# Altium integrated library Infineon_Power_Smart_Low-Side_&_High-Side_Switches.IntLib: 238 symbols (part 6 of 14)
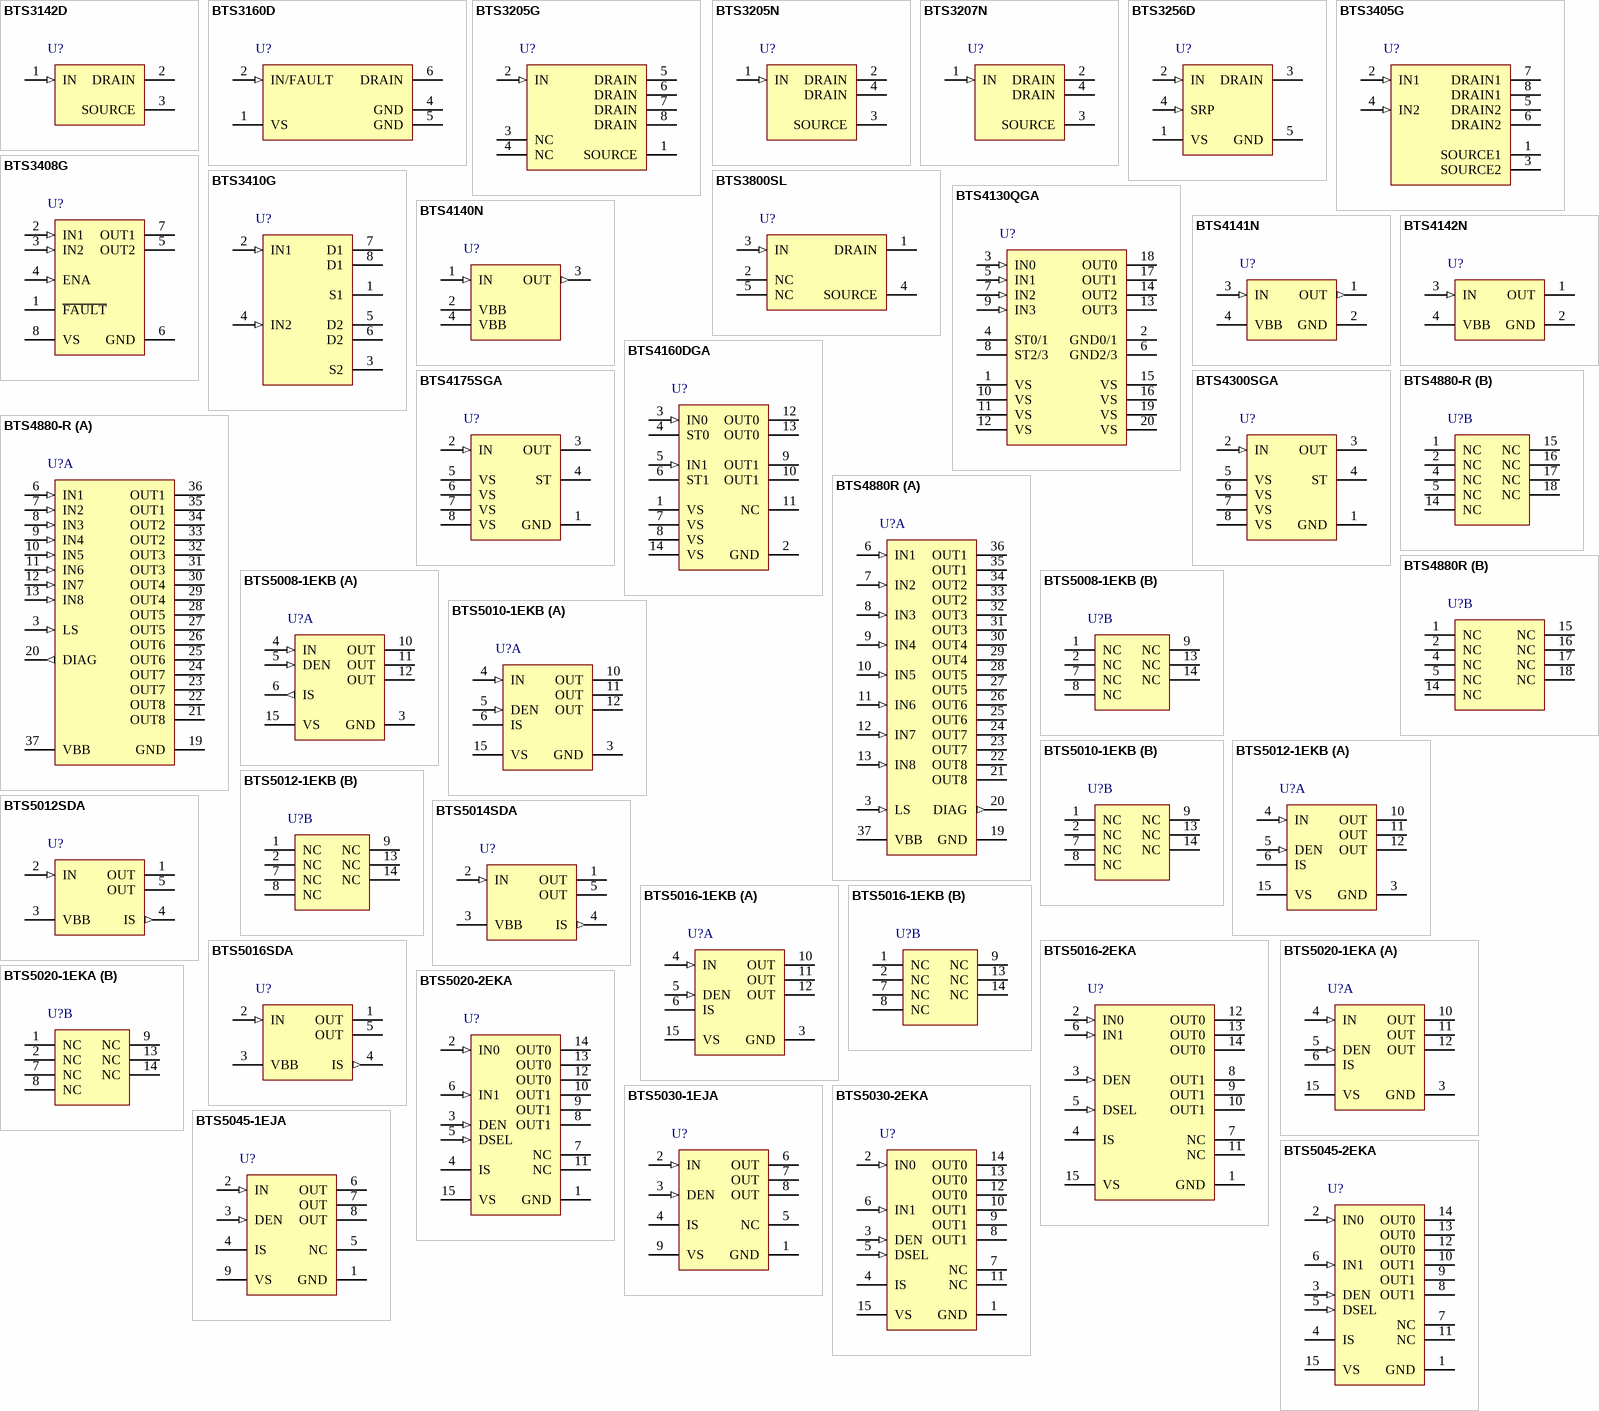
[diagram p12: symbols BTS3142D to BTS5045-2EKA]

## BTS5016-2EKA
designator U?
Smart High-Side Power Switch, 5 V to 28 V, -40 to 150 degC, PG-DSO-14, Reel, Green; Manufacturer: Infineon; PartNumber: BTS5016-2EKA; Channels: 2; Diagnostic: Sense; Green: TRUE; Load Current (typ): 8 A; Ptot (max): 2 W; Recommended Operating Voltage Max.: 28 V; Recommended Operating Voltage Min.: 5 V; RON (max) @ Tj: 150degreesC=32 mOhm; RON @ Tj: 25degreesC=16 mOhm; toff (max): 200 us; DatasheetVersion: Rev. 1.0; PackageVersion: Sep-11; PackageReference: PG-DSO-14-40; PackageDescription: 14-Pin Plastic (Green) Dual Small Outline Package, 8.65 x 3.9 mm Body, 1.27 mm Pitch; Supplier 1: Mouser; Supplier Part Number 1: N/A; Halogen-free: TRUE; Mounting: SMT; Packing: Reel; ton (max): 200 us; Mounting Technology: Surface Mount; Code_JEDEC: MS-012; ComponentLink1Description: Manufacturer URL; ComponentLink1URL: http://www.infineon.com/; ComponentLink2Description: Datasheet; ComponentLink2URL: http://www.infineon.com/dgdl/INFINEON-BTS5016-2EKA-Data-Sheet.pdf?folderId=db3a3043163797a6011667aa084c0e01&fileId=db3a30434208e5fd014209445345018e; ComponentLink3Description: Package Specification; ComponentLink3URL: http://www.infineon.com/dgdl/BTS5030-2EKA_Data-Sheet_21.pdf?folderId=db3a30431400ef68011421b54e2e0564&fileId=db3a30432a14dd54012a3c882d7f5994&sId=db3a30433d68e984013d83e34cd77b82
footprint INF-PG-DSO-14-40_N (SOP, 14-Leads, Body 8.65x3.9mm, Pitch 1.27mm, Thermal Pad 6.5x2.75mm, IPC Medium Density)
footprint INF-PG-DSO-14-40_L (SOP, 14-Leads, Body 8.65x3.9mm, Pitch 1.27mm, Thermal Pad 6.5x2.75mm, IPC High Density)
footprint INF-PG-DSO-14-40_M (SOP, 14-Leads, Body 8.65x3.9mm, Pitch 1.27mm, Thermal Pad 6.5x2.6mm, IPC Low Density)
pins: 1 GND (power) "GrouND; Ground connection", 2 IN0 (in) "INput channel 0; Input signal for channel 0 activation", 3 DEN (in) "Diagnostic ENable; Digital signal to enable/disable the diagnosis of the device", 4 IS (hiz) "Sense; Sense current of the selected channel", 5 DSEL (in) "Diagnostic SELection; Digital signal to select the channel to be diagnosed", 6 IN1 (in) "INput channel 1; Input signal for channel 1 activation", 7 NC "Not Connected; No internal connection to the chip", 8 OUT1 (power) "OUTput 1; Protected high side power output channel 1", 9 OUT1 (power) "OUTput 1; Protected high side power output channel 1", 10 OUT1 (power) "OUTput 1; Protected high side power output channel 1", 11 NC "Not Connected; No internal connection to the chip", 12 OUT0 (power) "OUTput 0; Protected high side power output channel 0", 13 OUT0 (power) "OUTput 0; Protected high side power output channel 0", 14 OUT0 (power) "OUTput 0; Protected high side power output channel 0", 15 VS (power) "Voltage Supply; Battery voltage"

## BTS5016SDA
designator U?
Smart High-Side Power Switch PROFET, 1 Channel, 6.5 A Load Current, -40 to 150 degC, PG-TO252-5-11, Reel, Green; Manufacturer: Infineon; PartNumber: BTS5016SDA; Channels: 1; Green: TRUE; Group: Automotive Qualified; Load Current (typ): 6.5 A; Recommended Operating Voltage Max.: 20 V; Recommended Operating Voltage Min.: 5.5 V; RON @ 25degreesC: 16 mOhm; RON(max) @ 150degreesC: 32 mOhm; toff (max): 500 us; DatasheetVersion: Rev. 1.1; PackageVersion: Nov-10; PackageReference: PG-TO252-5-11; PackageDescription: 5-Pin Plastic (Green) Transistor Single Outline Package, 6.5 x 6.12 mm Body, 1.14 mm Pitch; Supplier 1: Mouser; Supplier Part Number 1: 726-BTS5016SDA; Supplier 2: Newark; Supplier Part Number 2: 47W3403; Supplier 3: Farnell; Supplier Part Number 3: 2215483; Supplier 4: Digi-Key; Supplier Part Number 4: BTS5016SDAINDTR-ND; Supplier 5: Digi-Key; Supplier Part Number 5: BTS5016SDAINDCT-ND; Supplier 6: Digi-Key; Supplier Part Number 6: BTS5016SDAINDDKR-ND; Halogen-free: TRUE; Packing: Reel; ton (max): 500 us; Mounting Technology: Surface Mount; ComponentLink1Description: Manufacturer URL; ComponentLink1URL: http://www.infineon.com/; ComponentLink2Description: Datasheet; ComponentLink2URL: http://www.infineon.com/dgdl/BTS5016SDA_DS_v11.pdf?folderId=db3a304314dca389011537739e37155f&fileId=db3a30431d8a6b3c011db95e60562387&location=en.Products.Automotive_ICs.Smart_High-_and_Low-Side_Switches.PROFET__-_Smart_High_Side_Switches.DATASHEET.BTS5016SDA_DS_v11.pdf; ComponentLink3Description: Package Specification; ComponentLink3URL: http://www.infineon.com/dgdl/TLE7276-Data+Sheet-+v1_11.pdf?folderId=db3a304412b407950112b408e8c90004&fileId=db3a304412b407950112b436c53f66c8&sId=db3a30433db6f09f013dc0e43c0428c1
footprint INF-PG-TO252-5-11_N (DPAK, 5-Leads, Body 6.5x6.12mm, Pitch 1.14mm, IPC Medium Density)
footprint INF-PG-TO252-5-11_L (DPAK, 5-Leads, Body 6.5x6.12mm, Pitch 1.14mm, IPC High Density)
footprint INF-PG-TO252-5-11_M (DPAK, 5-Leads, Body 6.5x6.12mm, Pitch 1.14mm, IPC Low Density)
pins: 1 OUT (power) "Output; output to the load; pin 1 and 5 must be externally shorted.", 2 IN (in) "Input; activates the power switch if shorted to ground.", 3 VBB (power) "Supply Voltage; positive power supply voltage; tab and pin 3 are internally shorted.", 4 IS (out) "Sense Output; Diagnostic feedback; provides at normal operation a sense current proportional to the load current; in case of overload, overtemperature and/or short circuit a defined current is provided.", 5 OUT (power) "Output; output to the load; pin 1 and 5 must be externally shorted."

## BTS5020-1EKA
designator U?
PROFET+ 12 V Smart High-Side Power Switch, 1 Channel, 20 mOhm, 6.5 A Load Current, -40 to 150 degC, PG-DSO-14-47, Reel, Green; Manufacturer: Infineon; PartNumber: BTS5020-1EKA; Channels: 1; Green: TRUE; Group: Automotive Qualified; Load Current (typ): 6.5 A; Ptot (max): 1.8 W; Recommended Operating Voltage Max.: 28 V; Recommended Operating Voltage Min.: 5 V; RON @ 25degreesC: 20 mOhm; RON(max) @ 150degreesC: 44 mOhm; toff (max): 230 us; DatasheetVersion: Rev. 2.0; PackageVersion: Apr-12; PackageReference: PG-DSO-14-47; PackageDescription: 14-Pin Plastic (Green) Dual Small Outline Package, 8.65 x 3.9 mm Body, 1.27 mm Pitch; Halogen-free: TRUE; Packing: Reel; ton (max): 230 us; Mounting Technology: Surface Mount; Code_JEDEC: MS-012; ComponentLink1Description: Manufacturer URL; ComponentLink1URL: http://www.infineon.com/; ComponentLink2Description: Datasheet; ComponentLink2URL: http://www.infineon.com/dgdl/BTS5020_1EKA_DS20.pdf?folderId=db3a30431400ef68011421b54e2e0564&fileId=db3a304334c41e910134cbe312c960cb&location=en.Products.Automotive_ICs.Smart_High-_and_Low-Side_Switches.PROFET__-_Smart_High_Side_Switches.DATASHEET.BTS5020_1EKA_DS20.pdf; ComponentLink3Description: Package Specification; ComponentLink3URL: http://www.infineon.com/dgdl/BTS5016-1EKB-Datasheet-20-Infineon.pdf?folderId=db3a304317a748360117eee5521349bb&fileId=db3a3043372d5cc8013735a2497012f0&sId=db3a30433d68e984013d8558efbc0db3
footprint INF-PG-DSO-14-47_N (SOP, 14-Leads, Body 8.65x3.9mm, Pitch 1.27mm, Thermal Pad 6500x2750mm, IPC Medium Density)
footprint INF-PG-DSO-14-47_L (SOP, 14-Leads, Body 8.65x3.9mm, Pitch 1.27mm, Thermal Pad 6500x2750mm, IPC High Density)
footprint INF-PG-DSO-14-47_M (SOP, 14-Leads, Body 8.65x3.9mm, Pitch 1.27mm, Thermal Pad 6500x2750mm, IPC Low Density)
part A pins: 3 GND (power) "GrouND; Ground connection", 4 IN (in) "INput channel; Input signal for channel activation", 5 DEN (in) "Diagnostic ENable; Digital signal to enable/disable the diagnosis of the device", 6 IS (hiz) "Sense; Sense current of the selected channel", 10 OUT (power) "OUTput; Protected high side power output channel", 11 OUT (power) "OUTput; Protected high side power output channel", 12 OUT (power) "OUTput; Protected high side power output channel", 15 VS (power) "Voltage Supply; Battery voltage"
part B pins: 1 NC "Not Connected; No internal connection to the chip", 2 NC "Not Connected; No internal connection to the chip", 7 NC "Not Connected; No internal connection to the chip", 8 NC "Not Connected; No internal connection to the chip", 9 NC "Not Connected; No internal connection to the chip", 13 NC "Not Connected; No internal connection to the chip", 14 NC "Not Connected; No internal connection to the chip"

## BTS5020-2EKA
designator U?
PROFET+ 12 V Smart High-Side Power Switch, 1 Channel, 20 mOhm, 50 A Load Current, -40 to 150 degC, PG-DSO-14-47, Tube, Green; Manufacturer: Infineon; PartNumber: BTS5020-2EKA; Channels: 2; Green: TRUE; Group: Automotive Qualified; Load Current (typ): 50 A; Ptot (max): 2.2 W; Recommended Operating Voltage Max.: 28 V; Recommended Operating Voltage Min.: 5 V; RON @ 25degreesC: 20 mOhm; RON(max) @ 150degreesC: 44 mOhm; toff (max): 230 us; DatasheetVersion: Rev. 2.1; PackageVersion: Apr-12; PackageReference: PG-DSO-14-47; PackageDescription: 14-Pin Plastic (Green) Dual Small Outline Package, 8.65 x 3.9 mm Body, 1.27 mm Pitch; Supplier 1: Mouser; Supplier Part Number 1: 726-BTS5020-2EKA; Supplier 2: Digi-Key; Supplier Part Number 2: BTS5020-2EKATR-ND; Supplier 3: Digi-Key; Supplier Part Number 3: BTS5020-2EKACT-ND; Supplier 4: Digi-Key; Supplier Part Number 4: BTS5020-2EKADKR-ND; Halogen-free: TRUE; Packing: Tube; ton (max): 230 us; Mounting Technology: Surface Mount; Code_JEDEC: MS-012; ComponentLink1Description: Manufacturer URL; ComponentLink1URL: http://www.infineon.com/; ComponentLink2Description: Datasheet; ComponentLink2URL: http://www.infineon.com/dgdl/BTS5020-2EKA_DS21.pdf?folderId=db3a30431400ef68011421b54e2e0564&fileId=db3a30432a14dd54012a3c86e0ef598f&location=en.Products.Automotive_ICs.Smart_High-_and_Low-Side_Switches.PROFET__-_Smart_High_Side_Switches.DATASHEET.BTS5020-2EKA_DS21.pdf; ComponentLink3Description: Package Specification; ComponentLink3URL: http://www.infineon.com/dgdl/BTS5016-1EKB-Datasheet-20-Infineon.pdf?folderId=db3a304317a748360117eee5521349bb&fileId=db3a3043372d5cc8013735a2497012f0&sId=db3a30433d68e984013d8558efbc0db3
footprint INF-PG-DSO-14-47_N (SOP, 14-Leads, Body 8.65x3.9mm, Pitch 1.27mm, Thermal Pad 6500x2750mm, IPC Medium Density)
footprint INF-PG-DSO-14-47_L (SOP, 14-Leads, Body 8.65x3.9mm, Pitch 1.27mm, Thermal Pad 6500x2750mm, IPC High Density)
footprint INF-PG-DSO-14-47_M (SOP, 14-Leads, Body 8.65x3.9mm, Pitch 1.27mm, Thermal Pad 6500x2750mm, IPC Low Density)
pins: 1 GND (power) "GrouND; Ground connection", 2 IN0 (in) "INput channel 0; Input signal for channel 0 activation", 3 DEN (in) "Diagnostic ENable; Digital signal to enable/disable the diagnosis of the device", 4 IS (hiz) "Sense; Sense current of the selected channel", 5 DSEL (in) "Diagnostic SELection; Digital signal to select the channel to be diagnosed", 6 IN1 (in) "INput channel 1; Input signal for channel 1 activation", 7 NC "Not Connected; No internal connection to the chip", 8 OUT1 (power) "OUTput 1; Protected high side power output channel 1", 9 OUT1 (power) "OUTput 1; Protected high side power output channel 1", 10 OUT1 (power) "OUTput 1; Protected high side power output channel 1", 11 NC "Not Connected; No internal connection to the chip", 12 OUT0 (power) "OUTput 0; Protected high side power output channel 0", 13 OUT0 (power) "OUTput 0; Protected high side power output channel 0", 14 OUT0 (power) "OUTput 0; Protected high side power output channel 0", 15 VS (power) "Voltage Supply; Battery voltage"

## BTS5030-1EJA
designator U?
PROFET+ 12 V Smart High-Side Power Switch, 1 Channel, 30 mOhm, 6 A Load Current, -40 to 150 degC, PG-DSO-8-27, Reel, Green; Manufacturer: Infineon; PartNumber: BTS5030-1EJA; Channels: 1; Green: TRUE; Group: Automotive Qualified; Load Current (typ): 6 A; Packing: Tube; Ptot (max): 1.7 W; Recommended Operating Voltage Max.: 28 V; Recommended Operating Voltage Min.: 5 V; RON @ 25degreesC: 30 mOhm; RON(max) @ 150degreesC: 60 mOhm; toff (max): 230 us; DatasheetVersion: Rev. 2.1; PackageVersion: Jun-12; PackageReference: PG-DSO-8-27; PackageDescription: 8-Pin Plastic (Green) Dual Small Outline Package, 4.9 x 3.9 mm Body, 1.27 mm Pitch; Supplier 1: Mouser; Supplier Part Number 1: 726-BTS5030-1EJA; Halogen-free: TRUE; ton (max): 230 us; Mounting Technology: Surface Mount; Code_JEDEC: MS-012; ComponentLink1Description: Manufacturer URL; ComponentLink1URL: http://www.infineon.com/; ComponentLink2Description: Datasheet; ComponentLink2URL: http://www.infineon.com/dgdl/BTS5030_1EJA_DS21.pdf?folderId=db3a30431400ef68011421b54e2e0564&fileId=db3a30433162923a0131656f757e4186&location=en.Products.Automotive_ICs.Smart_High-_and_Low-Side_Switches.PROFET__-_Smart_High_Side_Switches.DATASHEET.BTS5030_1EJA_DS21.pdf; ComponentLink3Description: Package Specification; ComponentLink3URL: http://www.infineon.com/dgdl/ILD4071_DS_V10_November2011.pdf?folderId=db3a30431f848401011fcbf2ab4c04c4&fileId=db3a30433784a04001380498fdf04c32
footprint INF-PG-DSO-8-27_N (SOP, 8-Leads, Body 4.9x3.9mm, Pitch 1.27mm, Thermal Pad 3.2x2.85mm, IPC Medium Density)
footprint INF-PG-DSO-8-27_L (SOP, 8-Leads, Body 4.9x3.9mm, Pitch 1.27mm, Thermal Pad 3.2x2.85mm, IPC High Density)
footprint INF-PG-DSO-8-27_M (SOP, 8-Leads, Body 4.9x3.9mm, Pitch 1.27mm, Thermal Pad 3.2x2.85mm, IPC Low Density)
pins: 1 GND (power) "GrouND; Ground connection", 2 IN (in) "INput channel; Input signal for channel activation", 3 DEN (in) "Diagnostic ENable; Digital signal to enable/disable the diagnosis of the device", 4 IS (hiz) "Sense; Sense current of the selected channel", 5 NC "Not Connected; No internal connection to the chip", 6 OUT (power) "OUTput; Protected high side power output channel", 7 OUT (power) "OUTput; Protected high side power output channel", 8 OUT (power) "OUTput; Protected high side power output channel", 9 VS (power) "Voltage Supply; Battery voltage"

## BTS5030-2EKA
designator U?
PROFET+ 12 V Smart High-Side Power Switch, 2 Channels, 30 mOhm, 4 A Load Current, -40 to 150 degC, PG-DSO-14-40, Tube, Green; Manufacturer: Infineon; PartNumber: BTS5030-2EKA; Channels: 2; Green: TRUE; Group: Automotive Qualified; Load Current (typ): 4 A; Ptot (max): 2.1 W; Recommended Operating Voltage Max.: 28 V; Recommended Operating Voltage Min.: 5 V; RON @ 25degreesC: 30 mOhm; RON(max) @ 150degreesC: 60 mOhm; toff (max): 230 us; DatasheetVersion: Rev. 2.1; PackageVersion: Sep-11; PackageReference: PG-DSO-14-40; PackageDescription: 14-Pin Plastic (Green) Dual Small Outline Package, 8.65 x 3.9 mm Body, 1.27 mm Pitch; Supplier 1: Mouser; Supplier Part Number 1: 726-BTS5030-2EKA; Supplier 2: Digi-Key; Supplier Part Number 2: BTS5030-2EKA-ND; Halogen-free: TRUE; Packing: Tube; ton (max): 230 us; Mounting Technology: Surface Mount; Code_JEDEC: MS-012; ComponentLink1Description: Manufacturer URL; ComponentLink1URL: http://www.infineon.com/; ComponentLink2Description: Datasheet; ComponentLink2URL: http://www.infineon.com/dgdl/BTS5030-2EKA_Data-Sheet_21.pdf?folderId=db3a30431400ef68011421b54e2e0564&fileId=db3a30432a14dd54012a3c882d7f5994&location=en.Products.Automotive_ICs.Smart_High-_and_Low-Side_Switches.PROFET__-_Smart_High_Side_Switches.DATASHEET.BTS5030-2EKA_Data-Sheet_21.pdf; ComponentLink3Description: Package Specification; ComponentLink3URL: http://www.infineon.com/dgdl/BTS5030-2EKA_Data-Sheet_21.pdf?folderId=db3a30431400ef68011421b54e2e0564&fileId=db3a30432a14dd54012a3c882d7f5994&sId=db3a30433d68e984013d83e34cd77b82
footprint INF-PG-DSO-14-40_N (SOP, 14-Leads, Body 8.65x3.9mm, Pitch 1.27mm, Thermal Pad 6.5x2.75mm, IPC Medium Density)
footprint INF-PG-DSO-14-40_L (SOP, 14-Leads, Body 8.65x3.9mm, Pitch 1.27mm, Thermal Pad 6.5x2.75mm, IPC High Density)
footprint INF-PG-DSO-14-40_M (SOP, 14-Leads, Body 8.65x3.9mm, Pitch 1.27mm, Thermal Pad 6.5x2.6mm, IPC Low Density)
pins: 1 GND (power) "GrouND; Ground connection", 2 IN0 (in) "INput channel 0; Input signal for channel 0 activation", 3 DEN (in) "Diagnostic ENable; Digital signal to enable/disable the diagnosis of the device", 4 IS (hiz) "Sense; Sense current of the selected channel", 5 DSEL (in) "Diagnostic SELection; Digital signal to select the channel to be diagnosed", 6 IN1 (in) "INput channel 1; Input signal for channel 1 activation", 7 NC "Not Connected; No internal connection to the chip", 8 OUT1 (power) "OUTput 1; Protected high side power output channel 1", 9 OUT1 (power) "OUTput 1; Protected high side power output channel 1", 10 OUT1 (power) "OUTput 1; Protected high side power output channel 1", 11 NC "Not Connected; No internal connection to the chip", 12 OUT0 (power) "OUTput 0; Protected high side power output channel 0", 13 OUT0 (power) "OUTput 0; Protected high side power output channel 0", 14 OUT0 (power) "OUTput 0; Protected high side power output channel 0", 15 VS (power) "Voltage Supply; Battery voltage"

## BTS5045-1EJA
designator U?
PROFET+ 12 V Smart High-Side Power Switch, 1 Channel, 45 mOhm, 5 A Load Current, -40 to 150 degC, PG-DSO-8-27, Tube, Green; Manufacturer: Infineon; PartNumber: BTS5045-1EJA; Channels: 1; Green: TRUE; Group: Automotive Qualified; Load Current (typ): 5 A; Ptot (max): 1.6 W; Recommended Operating Voltage Max.: 28 V; Recommended Operating Voltage Min.: 5 V; RON @ 25degreesC: 45 mOhm; RON(max) @ 150degreesC: 90 mOhm; toff (max): 230 us; DatasheetVersion: Rev. 2.1; PackageVersion: Jun-12; PackageReference: PG-DSO-8-27; PackageDescription: 8-Pin Plastic (Green) Dual Small Outline Package, 4.9 x 3.9 mm Body, 1.27 mm Pitch; Supplier 1: Mouser; Supplier Part Number 1: 726-BTS5045-1EJA; Halogen-free: TRUE; Packing: Tube; ton (max): 230 us; Mounting Technology: Surface Mount; Code_JEDEC: MS-012; ComponentLink1Description: Manufacturer URL; ComponentLink1URL: http://www.infineon.com/; ComponentLink2Description: Datasheet; ComponentLink2URL: http://www.infineon.com/dgdl/BTS5045_1EJA_DS21.pdf?folderId=db3a30431400ef68011421b54e2e0564&fileId=db3a30433162923a0131656bdff6417f&location=en.Products.Automotive_ICs.Smart_High-_and_Low-Side_Switches.PROFET__-_Smart_High_Side_Switches.DATASHEET.BTS5045_1EJA_DS21.pdf; ComponentLink3Description: Package Specification; ComponentLink3URL: http://www.infineon.com/dgdl/ILD4071_DS_V10_November2011.pdf?folderId=db3a30431f848401011fcbf2ab4c04c4&fileId=db3a30433784a04001380498fdf04c32
footprint INF-PG-DSO-8-27_N (SOP, 8-Leads, Body 4.9x3.9mm, Pitch 1.27mm, Thermal Pad 3.2x2.85mm, IPC Medium Density)
footprint INF-PG-DSO-8-27_L (SOP, 8-Leads, Body 4.9x3.9mm, Pitch 1.27mm, Thermal Pad 3.2x2.85mm, IPC High Density)
footprint INF-PG-DSO-8-27_M (SOP, 8-Leads, Body 4.9x3.9mm, Pitch 1.27mm, Thermal Pad 3.2x2.85mm, IPC Low Density)
pins: 1 GND (power) "GrouND; Ground connection", 2 IN (in) "INput channel; Input signal for channel activation", 3 DEN (in) "Diagnostic ENable; Digital signal to enable/disable the diagnosis of the device", 4 IS (hiz) "Sense; Sense current of the selected channel", 5 NC "Not Connected; No internal connection to the chip", 6 OUT (power) "OUTput; Protected high side power output channel", 7 OUT (power) "OUTput; Protected high side power output channel", 8 OUT (power) "OUTput; Protected high side power output channel", 9 VS (power) "Voltage Supply; Battery voltage"

## BTS5045-2EKA
designator U?
PROFET+ 12 V Smart High-Side Power Switch, 2 Channels, 45 mohm, 3 A Load Current, -40 to 150 degC, PG-DSO-14-40, Reel, Green; Manufacturer: Infineon; PartNumber: BTS5045-2EKA; Channels: 2; Green: TRUE; Group: Automotive Qualified; Load Current (typ): 3 A; Ptot (max): 2 W; Recommended Operating Voltage Max.: 28 V; Recommended Operating Voltage Min.: 5 V; RON @ 25degreesC: 45 mOhm; RON(max) @ 150degreesC: 90 mOhm; toff (max): 230 us; DatasheetVersion: Rev. 2.1; PackageVersion: Sep-11; PackageReference: PG-DSO-14-40; PackageDescription: 14-Pin Plastic (Green) Dual Small Outline Package, 8.65 x 3.9 mm Body, 1.27 mm Pitch; Supplier 1: Mouser; Supplier Part Number 1: 726-BTS5045-2EKA; Supplier 2: Digi-Key; Supplier Part Number 2: BTS5045-2EKATR-ND; Supplier 3: Digi-Key; Supplier Part Number 3: BTS5045-2EKACT-ND; Supplier 4: Digi-Key; Supplier Part Number 4: BTS5045-2EKADKR-ND; Halogen-free: TRUE; Packing: Reel; ton (max): 230 us; Mounting Technology: Surface Mount; Code_JEDEC: MS-012; ComponentLink1Description: Manufacturer URL; ComponentLink1URL: http://www.infineon.com/; ComponentLink2Description: Datasheet; ComponentLink2URL: http://www.infineon.com/dgdl/BTS5045-2EKA_DS21.pdf?folderId=db3a30431400ef68011421b54e2e0564&fileId=db3a30432a14dd54012a3c894f625999&location=en.Products.Automotive_ICs.Smart_High-_and_Low-Side_Switches.PROFET__-_Smart_High_Side_Switches.DATASHEET.BTS5045-2EKA_DS21.pdf; ComponentLink3Description: Package Specification; ComponentLink3URL: http://www.infineon.com/dgdl/BTS5030-2EKA_Data-Sheet_21.pdf?folderId=db3a30431400ef68011421b54e2e0564&fileId=db3a30432a14dd54012a3c882d7f5994&sId=db3a30433d68e984013d83e34cd77b82
footprint INF-PG-DSO-14-40_N (SOP, 14-Leads, Body 8.65x3.9mm, Pitch 1.27mm, Thermal Pad 6.5x2.75mm, IPC Medium Density)
footprint INF-PG-DSO-14-40_L (SOP, 14-Leads, Body 8.65x3.9mm, Pitch 1.27mm, Thermal Pad 6.5x2.75mm, IPC High Density)
footprint INF-PG-DSO-14-40_M (SOP, 14-Leads, Body 8.65x3.9mm, Pitch 1.27mm, Thermal Pad 6.5x2.6mm, IPC Low Density)
pins: 1 GND (power) "GrouND; Ground connection", 2 IN0 (in) "INput channel 0; Input signal for channel 0 activation", 3 DEN (in) "Diagnostic ENable; Digital signal to enable/disable the diagnosis of the device", 4 IS (hiz) "Sense; Sense current of the selected channel", 5 DSEL (in) "Diagnostic SELection; Digital signal to select the channel to be diagnosed", 6 IN1 (in) "INput channel 1; Input signal for channel 1 activation", 7 NC "Not Connected; No internal connection to the chip", 8 OUT1 (power) "OUTput 1; Protected high side power output channel 1", 9 OUT1 (power) "OUTput 1; Protected high side power output channel 1", 10 OUT1 (power) "OUTput 1; Protected high side power output channel 1", 11 NC "Not Connected; No internal connection to the chip", 12 OUT0 (power) "OUTput 0; Protected high side power output channel 0", 13 OUT0 (power) "OUTput 0; Protected high side power output channel 0", 14 OUT0 (power) "OUTput 0; Protected high side power output channel 0", 15 VS (power) "Voltage Supply; Battery voltage"

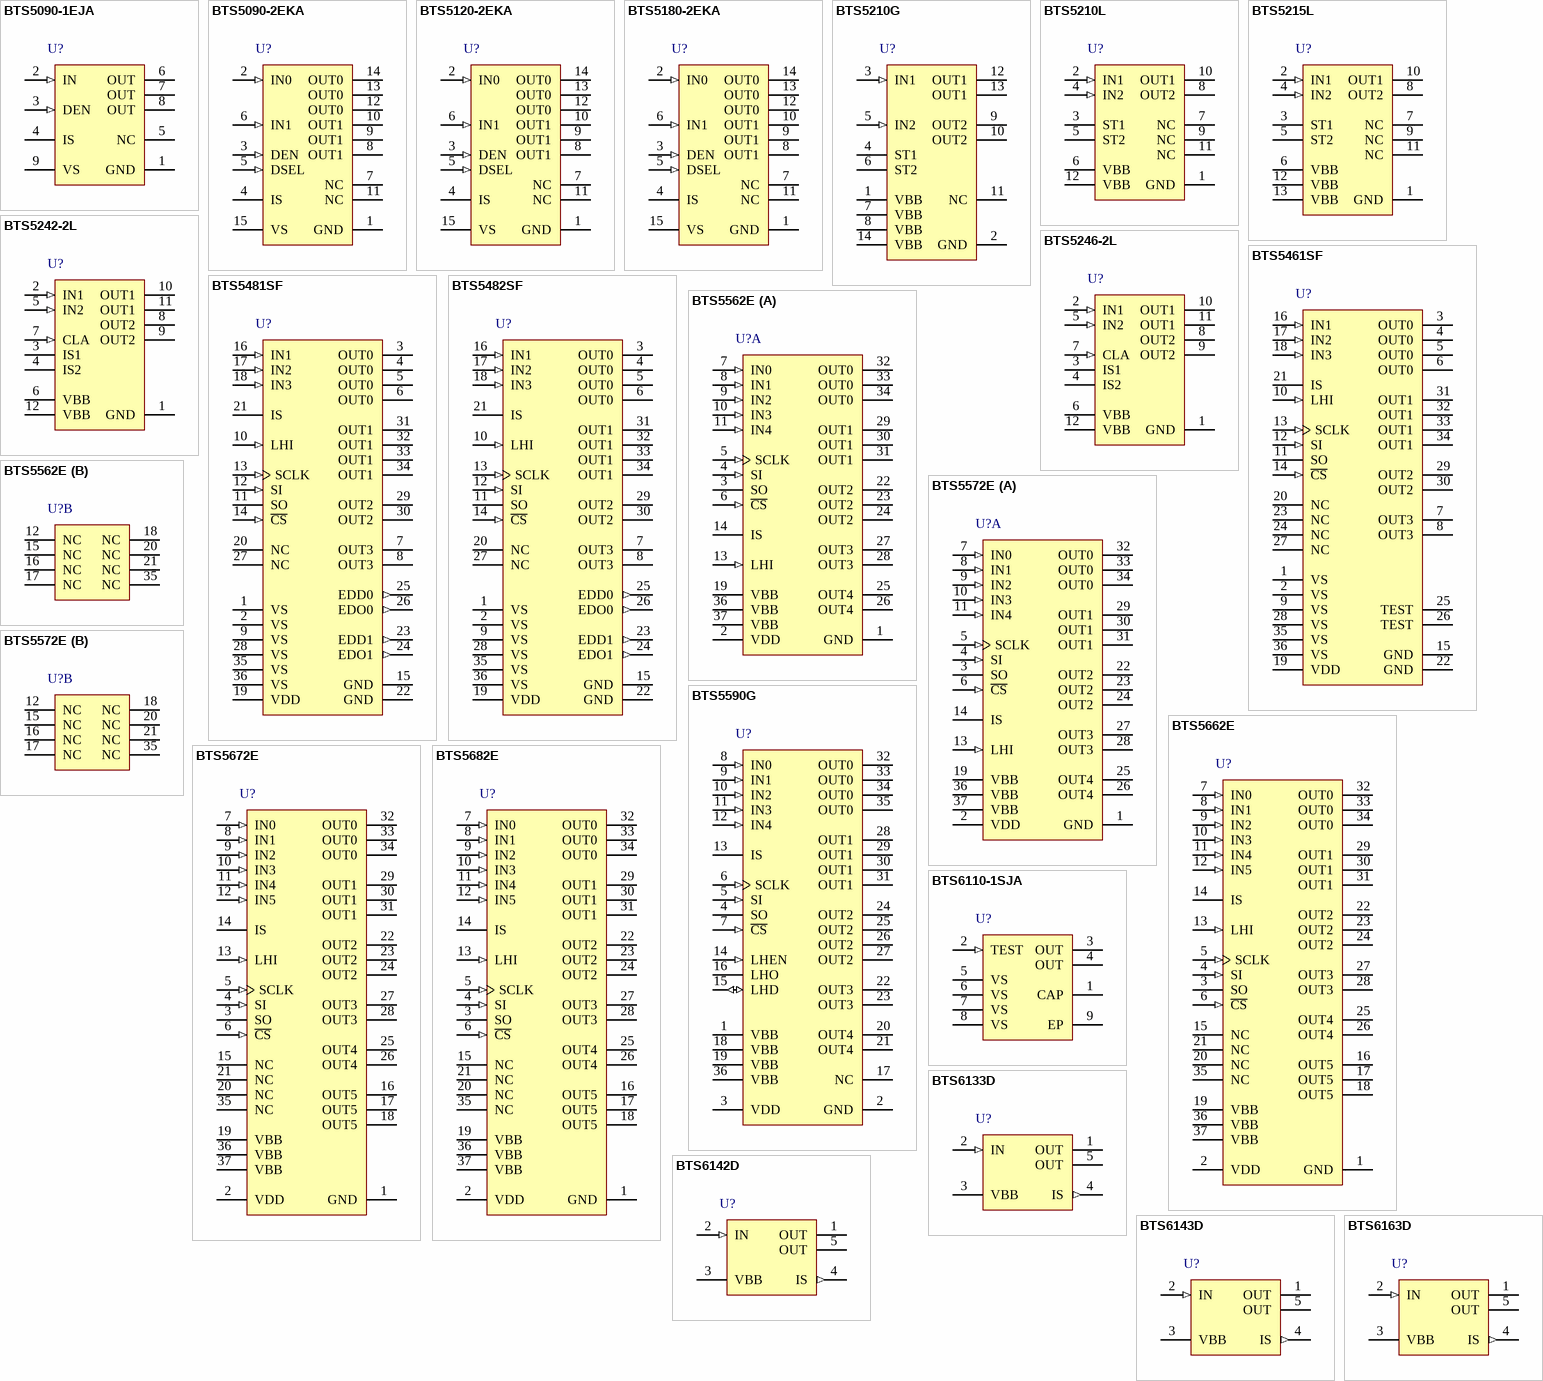
[diagram p3: symbols BTS5090-1EJA to BTS6163D]

## BTS5090-1EJA
designator U?
PROFET+ 12 V Smart High-Side Power Switch, 90 mOhm, 1 Channel, 3 A Load Current, -40 to 150 degC, PG-DSO-8-27, Reel, Green; Manufacturer: Infineon; PartNumber: BTS5090-1EJA; Channels: 1; Green: TRUE; Group: Automotive Qualified; Load Current (typ): 3.5 A; Ptot (max): 1.5 W; Recommended Operating Voltage Max.: 28 V; Recommended Operating Voltage Min.: 5 V; RON @ 25degreesC: 90 mOhm; RON(max) @ 150degreesC: 180 mOhm; toff (max): 230 us; DatasheetVersion: Rev. 2.1; PackageVersion: Jun-12; PackageReference: PG-DSO-8-27; PackageDescription: 8-Pin Plastic (Green) Dual Small Outline Package, 4.9 x 3.9 mm Body, 1.27 mm Pitch; Supplier 1: Mouser; Supplier Part Number 1: 726-BTS5090-1EJA; Halogen-free: TRUE; Packing: Reel; ton (max): 230 us; Mounting Technology: Surface Mount; Code_JEDEC: MS-012; ComponentLink1Description: Manufacturer URL; ComponentLink1URL: http://www.infineon.com/; ComponentLink2Description: Datasheet; ComponentLink2URL: http://www.infineon.com/dgdl/BTS5090_1EJA_DS21.pdf?folderId=db3a30431400ef68011421b54e2e0564&fileId=db3a30433162923a01316569bf384177&location=en.Products.Automotive_ICs.Smart_High-_and_Low-Side_Switches.PROFET__-_Smart_High_Side_Switches.DATASHEET.BTS5090_1EJA_DS21.pdf; ComponentLink3Description: Package Specification; ComponentLink3URL: http://www.infineon.com/dgdl/ILD4071_DS_V10_November2011.pdf?folderId=db3a30431f848401011fcbf2ab4c04c4&fileId=db3a30433784a04001380498fdf04c32
footprint INF-PG-DSO-8-27_N (SOP, 8-Leads, Body 4.9x3.9mm, Pitch 1.27mm, Thermal Pad 3.2x2.85mm, IPC Medium Density)
footprint INF-PG-DSO-8-27_L (SOP, 8-Leads, Body 4.9x3.9mm, Pitch 1.27mm, Thermal Pad 3.2x2.85mm, IPC High Density)
footprint INF-PG-DSO-8-27_M (SOP, 8-Leads, Body 4.9x3.9mm, Pitch 1.27mm, Thermal Pad 3.2x2.85mm, IPC Low Density)
pins: 1 GND (power) "GrouND; Ground connection", 2 IN (in) "INput channel; Input signal for channel activation", 3 DEN (in) "Diagnostic ENable; Digital signal to enable/disable the diagnosis of the device", 4 IS (hiz) "Sense; Sense current of the selected channel", 5 NC "Not Connected; No internal connection to the chip", 6 OUT (power) "OUTput; Protected high side power output channel", 7 OUT (power) "OUTput; Protected high side power output channel", 8 OUT (power) "OUTput; Protected high side power output channel", 9 VS (power) "Voltage Supply; Battery voltage"

## BTS5090-2EKA
designator U?
PROFET+ 12 V Smart High-Side Power Switch, 90 mOhm, 2 Channels, 2.5 A Load Current, -40 to 150 degC, PG-DSO-14-40, Reel, Green; Manufacturer: Infineon; PartNumber: BTS5090-2EKA; Channels: 2; Green: TRUE; Group: Automotive Qualified; Load Current (typ): 2.5 A; Ptot (max): 1.9 W; Recommended Operating Voltage Max.: 28 V; Recommended Operating Voltage Min.: 5 V; RON @ 25degreesC: 90 mOhm; RON(max) @ 150degreesC: 180 mOhm; toff (max): 230 us; DatasheetVersion: Rev. 2.1; PackageVersion: Sep-11; PackageReference: PG-DSO-14-40; PackageDescription: 14-Pin Plastic (Green) Dual Small Outline Package, 8.65 x 3.9 mm Body, 1.27 mm Pitch; Supplier 1: Mouser; Supplier Part Number 1: 726-BTS5090-2EKA; Supplier 2: Digi-Key; Supplier Part Number 2: BTS5090-2EKA-ND; Halogen-free: TRUE; Packing: Reel; ton (max): 230 us; Mounting Technology: Surface Mount; Code_JEDEC: MS-012; ComponentLink1Description: Manufacturer URL; ComponentLink1URL: http://www.infineon.com/; ComponentLink2Description: Datasheet; ComponentLink2URL: http://www.infineon.com/dgdl/BTS5090-2EKA_DS21.pdf?folderId=db3a30431400ef68011421b54e2e0564&fileId=db3a30432a14dd54012a3c8a87f5599e&location=en.Products.Automotive_ICs.Smart_High-_and_Low-Side_Switches.PROFET__-_Smart_High_Side_Switches.DATASHEET.BTS5090-2EKA_DS21.pdf; ComponentLink3Description: Package Specification; ComponentLink3URL: http://www.infineon.com/dgdl/BTS5030-2EKA_Data-Sheet_21.pdf?folderId=db3a30431400ef68011421b54e2e0564&fileId=db3a30432a14dd54012a3c882d7f5994&sId=db3a30433d68e984013d83e34cd77b82
footprint INF-PG-DSO-14-40_N (SOP, 14-Leads, Body 8.65x3.9mm, Pitch 1.27mm, Thermal Pad 6.5x2.75mm, IPC Medium Density)
footprint INF-PG-DSO-14-40_L (SOP, 14-Leads, Body 8.65x3.9mm, Pitch 1.27mm, Thermal Pad 6.5x2.75mm, IPC High Density)
footprint INF-PG-DSO-14-40_M (SOP, 14-Leads, Body 8.65x3.9mm, Pitch 1.27mm, Thermal Pad 6.5x2.6mm, IPC Low Density)
pins: 1 GND (power) "GrouND; Ground connection", 2 IN0 (in) "INput channel 0; Input signal for channel 0 activation", 3 DEN (in) "Diagnostic ENable; Digital signal to enable/disable the diagnosis of the device", 4 IS (hiz) "Sense; Sense current of the selected channel", 5 DSEL (in) "Diagnostic SELection; Digital signal to select the channel to be diagnosed", 6 IN1 (in) "INput channel 1; Input signal for channel 1 activation", 7 NC "Not Connected; No internal connection to the chip", 8 OUT1 (power) "OUTput 1; Protected high side power output channel 1", 9 OUT1 (power) "OUTput 1; Protected high side power output channel 1", 10 OUT1 (power) "OUTput 1; Protected high side power output channel 1", 11 NC "Not Connected; No internal connection to the chip", 12 OUT0 (power) "OUTput 0; Protected high side power output channel 0", 13 OUT0 (power) "OUTput 0; Protected high side power output channel 0", 14 OUT0 (power) "OUTput 0; Protected high side power output channel 0", 15 VS (power) "Voltage Supply; Battery voltage"

## BTS5120-2EKA
designator U?
PROFET+ 12 V Smart High-Side Power Switch, 120 mOhm, 2 Channels, 2 A Load Current, -40 to 150 degC, PG-DSO-14-40, Reel, Green; Manufacturer: Infineon; PartNumber: BTS5120-2EKA; Channels: 2; Green: TRUE; Group: Automotive Qualified; Load Current (typ): 2 A; Ptot (max): 1.8 W; Recommended Operating Voltage Max.: 28 V; Recommended Operating Voltage Min.: 5 V; RON(max) @ 150degreesC: 240 mOhm; toff (max): 230 us; DatasheetVersion: Rev. 2.1; PackageVersion: Sep-11; PackageReference: PG-DSO-14-40; PackageDescription: 14-Pin Plastic (Green) Dual Small Outline Package, 8.65 x 3.9 mm Body, 1.27 mm Pitch; Supplier 1: Mouser; Supplier Part Number 1: 726-BTS5120-2EKA; Supplier 2: Newark; Supplier Part Number 2: 78X4835; Supplier 3: Farnell; Supplier Part Number 3: 2432493; Supplier 4: Digi-Key; Supplier Part Number 4: BTS5120-2EKA-ND; Halogen-free: TRUE; Packing: Reel; RON @ 25degreesC: 120 mOhm; ton (max): 230 us; Mounting Technology: Surface Mount; Code_JEDEC: MS-012; ComponentLink1Description: Manufacturer URL; ComponentLink1URL: http://www.infineon.com/; ComponentLink2Description: Datasheet; ComponentLink2URL: http://www.infineon.com/dgdl/BTS5120-2EKA_DS21.pdf?folderId=db3a30431400ef68011421b54e2e0564&fileId=db3a30432a14dd54012a3c8bb93359a3&location=en.Products.Automotive_ICs.Smart_High-_and_Low-Side_Switches.PROFET__-_Smart_High_Side_Switches.DATASHEET.BTS5120-2EKA_DS21.pdf; ComponentLink3Description: Package Specification; ComponentLink3URL: http://www.infineon.com/dgdl/BTS5030-2EKA_Data-Sheet_21.pdf?folderId=db3a30431400ef68011421b54e2e0564&fileId=db3a30432a14dd54012a3c882d7f5994&sId=db3a30433d68e984013d83e34cd77b82
footprint INF-PG-DSO-14-40_N (SOP, 14-Leads, Body 8.65x3.9mm, Pitch 1.27mm, Thermal Pad 6.5x2.75mm, IPC Medium Density)
footprint INF-PG-DSO-14-40_L (SOP, 14-Leads, Body 8.65x3.9mm, Pitch 1.27mm, Thermal Pad 6.5x2.75mm, IPC High Density)
footprint INF-PG-DSO-14-40_M (SOP, 14-Leads, Body 8.65x3.9mm, Pitch 1.27mm, Thermal Pad 6.5x2.6mm, IPC Low Density)
pins: 1 GND (power) "GrouND; Ground connection", 2 IN0 (in) "INput channel 0; Input signal for channel 0 activation", 3 DEN (in) "Diagnostic ENable; Digital signal to enable/disable the diagnosis of the device", 4 IS (hiz) "Sense; Sense current of the selected channel", 5 DSEL (in) "Diagnostic SELection; Digital signal to select the channel to be diagnosed", 6 IN1 (in) "INput channel 1; Input signal for channel 1 activation", 7 NC "Not Connected; No internal connection to the chip", 8 OUT1 (power) "OUTput 1; Protected high side power output channel 1", 9 OUT1 (power) "OUTput 1; Protected high side power output channel 1", 10 OUT1 (power) "OUTput 1; Protected high side power output channel 1", 11 NC "Not Connected; No internal connection to the chip", 12 OUT0 (power) "OUTput 0; Protected high side power output channel 0", 13 OUT0 (power) "OUTput 0; Protected high side power output channel 0", 14 OUT0 (power) "OUTput 0; Protected high side power output channel 0", 15 VS (power) "Voltage Supply; Battery voltage"

## BTS5180-2EKA
designator U?
PROFET+ 12 V Smart High-Side Power Switch, 180 mOhm, 2 Channels, 1.5 A Load Current, -40 to 150 degC, PG-DSO-14-40, Reel, Green; Manufacturer: Infineon; PartNumber: BTS5180-2EKA; Channels: 2; Green: TRUE; Group: Automotive Qualified; Load Current (typ): 1.5 A; Ptot (max): 1.6 W; Recommended Operating Voltage Max.: 28 V; Recommended Operating Voltage Min.: 5 V; RON(max) @ 150degreesC: 360 mOhm; toff (max): 230 us; DatasheetVersion: Rev. 2.1; PackageVersion: Sep-11; PackageReference: PG-DSO-14-40; PackageDescription: 14-Pin Plastic (Green) Dual Small Outline Package, 8.65 x 3.9 mm Body, 1.27 mm Pitch; Supplier 1: Mouser; Supplier Part Number 1: 726-BTS5180-2EKA; Supplier 2: Newark; Supplier Part Number 2: 78X4836; Supplier 3: Farnell; Supplier Part Number 3: 2432494; Supplier 4: Digi-Key; Supplier Part Number 4: BTS5180-2EKA-ND; Halogen-free: TRUE; Packing: Reel; RON @ 25degreesC: 180 mOhm; ton (max): 230 us; Mounting Technology: Surface Mount; Code_JEDEC: MS-012; ComponentLink1Description: Manufacturer URL; ComponentLink1URL: http://www.infineon.com/; ComponentLink2Description: Datasheet; ComponentLink2URL: http://www.infineon.com/dgdl/BTS5180-2EKA_DS21.pdf?folderId=db3a30431400ef68011421b54e2e0564&fileId=db3a30432a14dd54012a3c8d0fc759a8&location=en.Products.Automotive_ICs.Smart_High-_and_Low-Side_Switches.PROFET__-_Smart_High_Side_Switches.DATASHEET.BTS5180-2EKA_DS21.pdf; ComponentLink3Description: Package Specification; ComponentLink3URL: http://www.infineon.com/dgdl/BTS5030-2EKA_Data-Sheet_21.pdf?folderId=db3a30431400ef68011421b54e2e0564&fileId=db3a30432a14dd54012a3c882d7f5994&sId=db3a30433d68e984013d83e34cd77b82
footprint INF-PG-DSO-14-40_N (SOP, 14-Leads, Body 8.65x3.9mm, Pitch 1.27mm, Thermal Pad 6.5x2.75mm, IPC Medium Density)
footprint INF-PG-DSO-14-40_L (SOP, 14-Leads, Body 8.65x3.9mm, Pitch 1.27mm, Thermal Pad 6.5x2.75mm, IPC High Density)
footprint INF-PG-DSO-14-40_M (SOP, 14-Leads, Body 8.65x3.9mm, Pitch 1.27mm, Thermal Pad 6.5x2.6mm, IPC Low Density)
pins: 1 GND (power) "GrouND; Ground connection", 2 IN0 (in) "INput channel 0; Input signal for channel 0 activation", 3 DEN (in) "Diagnostic ENable; Digital signal to enable/disable the diagnosis of the device", 4 IS (hiz) "Sense; Sense current of the selected channel", 5 DSEL (in) "Diagnostic SELection; Digital signal to select the channel to be diagnosed", 6 IN1 (in) "INput channel 1; Input signal for channel 1 activation", 7 NC "Not Connected; No internal connection to the chip", 8 OUT1 (power) "OUTput 1; Protected high side power output channel 1", 9 OUT1 (power) "OUTput 1; Protected high side power output channel 1", 10 OUT1 (power) "OUTput 1; Protected high side power output channel 1", 11 NC "Not Connected; No internal connection to the chip", 12 OUT0 (power) "OUTput 0; Protected high side power output channel 0", 13 OUT0 (power) "OUTput 0; Protected high side power output channel 0", 14 OUT0 (power) "OUTput 0; Protected high side power output channel 0", 15 VS (power) "Voltage Supply; Battery voltage"

## BTS5210G
designator U?
Smart High-Side Power Switch PROFET, 2 Channels, 1.7 A Load Current, -40 to 150 degC, PG-DSO-14-37, Reel, Green; Manufacturer: Infineon; PartNumber: BTS5210G; Channels: 2; Green: TRUE; Group: Automotive Qualified; Load Current (typ): 1.7 A; Ptot (max): 3.05 W; Recommended Operating Voltage Max.: 40 V; Recommended Operating Voltage Min.: 5.5 V; RON @ 25degreesC: 140 mOhm; RON(max) @ 150degreesC: 280 mOhm; toff (max): 270 us; ton (max): 250 us; DatasheetVersion: Rev. 1.3; PackageVersion: Sep-07; PackageReference: PG-DSO-14-37; PackageDescription: 14-Pin Plastic (Green) Dual Small Outline Package, 8.65 x 3.9 mm Body, 1.27 mm Pitch; Supplier 1: Mouser; Supplier Part Number 1: 726-BTS5210G; Supplier 2: Newark; Supplier Part Number 2: 47W3404; Supplier 3: Farnell; Supplier Part Number 3: 2215488; Supplier 4: Digi-Key; Supplier Part Number 4: BTS5210GINTR-ND; Supplier 5: Digi-Key; Supplier Part Number 5: BTS5210GINCT-ND; Supplier 6: Digi-Key; Supplier Part Number 6: BTS5210GINDKR-ND; Halogen-free: TRUE; Packing: Reel; Mounting Technology: Surface Mount; ComponentLink1Description: Manufacturer URL; ComponentLink1URL: http://www.infineon.com/; ComponentLink2Description: Datasheet; ComponentLink2URL: http://www.infineon.com/dgdl/BTS5210G_DS13_20090416.pdf?folderId=db3a304314dca389011537739e37155f&fileId=db3a304320896aa20120c81d7b2d3269&location=en.Products.Automotive_ICs.Smart_High-_and_Low-Side_Switches.PROFET__-_Smart_High_Side_Switches.DATASHEET.BTS5210G_DS13_20090416.pdf; ComponentLink3Description: Package Specification; ComponentLink3URL: http://www.infineon.com/dgdl/BTS723GWDS11_2007_09_25.pdf?folderId=db3a304314dca389011537739e37155f&fileId=db3a304331c8f8560131dbfec21b0da9&sId=db3a30443d67b5ca013d854df2f133e5
footprint INF-PG-DSO-14-37_N (SOP, 14-Leads, Body 8.65x3.9mm, Pitch 1.27mm, IPC Medium Density)
footprint INF-PG-DSO-14-37_L (SOP, 14-Leads, Body 8.65x3.9mm, Pitch 1.27mm, IPC High Density)
footprint INF-PG-DSO-14-37_M (SOP, 14-Leads, Body 8.65x3.9mm, Pitch 1.27mm, IPC Low Density)
pins: 1 VBB (power) "Positive power supply voltage. Design the wiring for the simultaneous max. short circuit currents from channel 1 to 2 and also for low thermal resistance", 2 GND (power) "Logic Ground", 3 IN1 (in) "Input 1,2 activates channel 1,2 in case of logic high signal", 4 ST1 (oc) "Diagnostic feedback 1,2 of channel 1,2 open drain", 5 IN2 (in) "Input 1,2 activates channel 1,2 in case of logic high signal", 6 ST2 (oc) "Diagnostic feedback 1,2 of channel 1,2 open drain", 7 VBB (power) "Positive power supply voltage. Design the wiring for the simultaneous max. short circuit currents from channel 1 to 2 and also for low thermal resistance", 8 VBB (power) "Positive power supply voltage. Design the wiring for the simultaneous max. short circuit currents from channel 1 to 2 and also for low thermal resistance", 9 OUT2 (power) "Output 1,2 protected high-side power output of channel 1,2. Design the wiring for the max. short circuit current; both output pins have to be connected in parallel for operation according this spec.", 10 OUT2 (power) "Output 1,2 protected high-side power output of channel 1,2. Design the wiring for the max. short circuit current; both output pins have to be connected in parallel for operation according this spec.", 11 NC "Not Connected", 12 OUT1 (power) "Output 1,2 protected high-side power output of channel 1,2. Design the wiring for the max. short circuit current; both output pins have to be connected in parallel for operation according this spec.", 13 OUT1 (power) "Output 1,2 protected high-side power output of channel 1,2. Design the wiring for the max. short circuit current; both output pins have to be connected in parallel for operation according this spec.", 14 VBB (power) "Positive power supply voltage. Design the wiring for the simultaneous max. short circuit currents from channel 1 to 2 and also for low thermal resistance"

## BTS5210L
designator U?
Smart High-Side Power Switch, 2 Channels, 2 x 140 mohm, 1.7 A Load Current, -40 to 150 degC, PG-DSO-12-9, Reel, Green; Manufacturer: Infineon; PartNumber: BTS5210L; Channels: 2; Green: TRUE; Group: Automotive Qualified; Load Current (typ): 1.7 A; Ptot (max): 3.05 W; Recommended Operating Voltage Max.: 40 V; Recommended Operating Voltage Min.: 5.5 V; RON(max) @ 150degreesC: 280 mOhm; toff (max): 270 us; ton (max): 250 us; DatasheetVersion: Rev. 1.1; PackageVersion: May-07; PackageReference: PG-DSO-12-9; PackageDescription: 12-Pin Plastic (Green) Dual Small Outline Package, 7.5 x 6.4 mm Body, 1 mm Pitch; Supplier 1: Mouser; Supplier Part Number 1: 726-BTS5210L; Supplier 2: Newark; Supplier Part Number 2: 47W3405; Supplier 3: Farnell; Supplier Part Number 3: 2215522; Supplier 4: Digi-Key; Supplier Part Number 4: BTS5210LTR-ND; Supplier 5: Digi-Key; Supplier Part Number 5: BTS5210LCT-ND; Supplier 6: Digi-Key; Supplier Part Number 6: BTS5210LDKR-ND; Halogen-free: TRUE; Packing: Reel; RON @ 25degreesC: 140 mOhm; Mounting Technology: Surface Mount; ComponentLink1Description: Manufacturer URL; ComponentLink1URL: http://www.infineon.com/; ComponentLink2Description: Datasheet; ComponentLink2URL: http://www.infineon.com/dgdl/BTS5210L.pdf?folderId=db3a304314dca389011537739e37155f&fileId=db3a304316f112290116f28c05eb7248&location=en.Products.Automotive_ICs.Smart_High-_and_Low-Side_Switches.PROFET__-_Smart_High_Side_Switches.DATASHEET.BTS5210L.pdf; ComponentLink3Description: Package Specification; ComponentLink3URL: http://www.infineon.com/dgdl/BTS5210L.pdf?folderId=db3a304314dca389011537739e37155f&fileId=db3a304316f112290116f28c05eb7248&sId=db3a30443d67b5ca013d84e4f39f338f
footprint INF-PG-DSO-12-9_N (SOP, 12-Leads, Body 7.5x6.4mm, Pitch 1mm, Thermal Pad 7.9x4.3mm, IPC Medium Density)
footprint INF-PG-DSO-12-9_L (SOP, 12-Leads, Body 7.5x6.4mm, Pitch 1mm, Thermal Pad 7.9x4.3mm, IPC High Density)
footprint INF-PG-DSO-12-9_M (SOP, 12-Leads, Body 7.5x6.4mm, Pitch 1mm, Thermal Pad 7.9x4.3mm, IPC Low Density)
pins: 1 GND (power) "Ground of chip", 2 IN1 (in) "Input 1,2 activates channel 1,2 in case of logic high signal", 3 ST1 (oc) "Diagnostic feedback 1 & 2 of channel 1,2 open drain, low on failure", 4 IN2 (in) "Input 1,2 activates channel 1,2 in case of logic high signal", 5 ST2 (oc) "Diagnostic feedback 1 & 2 of channel 1,2 open drain, low on failure", 6 VBB (power) "Positive power supply voltage. Design the wiring for the simultaneous max. short circuit currents from channel 1 to 2 and also for low thermal resistance", 7 NC "Not Connected", 8 OUT2 (power) "Output 1,2 protected high-side power output of channel 1 and 2. Design the wiring for the max. short circuit current", 9 NC "Not Connected", 10 OUT1 (power) "Output 1,2 protected high-side power output of channel 1 and 2. Design the wiring for the max. short circuit current", 11 NC "Not Connected", 12 VBB (power) "Positive power supply voltage. Design the wiring for the simultaneous max. short circuit currents from channel 1 to 2 and also for low thermal resistance"

## BTS5215L
designator U?
Smart High-Side Power Switch, 2 Channels, 2.1 A Load Current, -40 to 150 degC, PG-DSO-12-9, Reel, Green; Manufacturer: Infineon; PartNumber: BTS5215L; Channels: 2; Green: TRUE; Group: Automotive Qualified; Load Current (typ): 2.1 A; Ptot (max): 3.1 W; Recommended Operating Voltage Max.: 40 V; Recommended Operating Voltage Min.: 5.5 V; RON @ 25degreesC: 90 mOhm; RON(max) @ 150degreesC: 180 mOhm; toff (max): 270 us; ton (max): 250 us; DatasheetVersion: Rev. 1.1; PackageVersion: May-07; PackageReference: PG-DSO-12-9; PackageDescription: 12-Pin Plastic (Green) Dual Small Outline Package, 7.5 x 6.4 mm Body, 1 mm Pitch; Supplier 1: Mouser; Supplier Part Number 1: 726-BTS5215L; Supplier 2: Newark; Supplier Part Number 2: 78X4837; Supplier 3: Farnell; Supplier Part Number 3: 2432495; Supplier 4: Digi-Key; Supplier Part Number 4: BTS5215LINTR-ND; Supplier 5: Digi-Key; Supplier Part Number 5: BTS5215LINCT-ND; Supplier 6: Digi-Key; Supplier Part Number 6: BTS5215LINDKR-ND; Halogen-free: TRUE; Packing: Reel; Mounting Technology: Surface Mount; ComponentLink1Description: Manufacturer URL; ComponentLink1URL: http://www.infineon.com/; ComponentLink2Description: Datasheet; ComponentLink2URL: http://www.infineon.com/dgdl/BTS5215L.pdf?folderId=db3a304314dca389011537739e37155f&fileId=db3a304316f112290116f28f7b2c724d&location=en.Products.Automotive_ICs.Smart_High-_and_Low-Side_Switches.PROFET__-_Smart_High_Side_Switches.DATASHEET.BTS5215L.pdf; ComponentLink3Description: Package Specification; ComponentLink3URL: http://www.infineon.com/dgdl/BTS5210L.pdf?folderId=db3a304314dca389011537739e37155f&fileId=db3a304316f112290116f28c05eb7248&sId=db3a30443d67b5ca013d84e4f39f338f
footprint INF-PG-DSO-12-9_N (SOP, 12-Leads, Body 7.5x6.4mm, Pitch 1mm, Thermal Pad 7.9x4.3mm, IPC Medium Density)
footprint INF-PG-DSO-12-9_L (SOP, 12-Leads, Body 7.5x6.4mm, Pitch 1mm, Thermal Pad 7.9x4.3mm, IPC High Density)
footprint INF-PG-DSO-12-9_M (SOP, 12-Leads, Body 7.5x6.4mm, Pitch 1mm, Thermal Pad 7.9x4.3mm, IPC Low Density)
pins: 1 GND (power) "Ground of chip", 2 IN1 (in) "Input 1,2 activates channel 1,2 in case of logic high signal", 3 ST1 (oc) "Diagnostic feedback 1 & 2 of channel 1,2 open drain, low on failure", 4 IN2 (in) "Input 1,2 activates channel 1,2 in case of logic high signal", 5 ST2 (oc) "Diagnostic feedback 1 & 2 of channel 1,2 open drain, low on failure", 6 VBB (power) "Positive power supply voltage. Design the wiring for the simultaneous max. short circuit currents from channel 1 to 2 and also for low thermal resistance", 7 NC "Not Connected", 8 OUT2 (power) "Output 1,2 protected high-side power output of channel 1 and 2. Design the wiring for the max. short circuit current", 9 NC "Not Connected", 10 OUT1 (power) "Output 1,2 protected high-side power output of channel 1 and 2. Design the wiring for the max. short circuit current", 11 NC "Not Connected", 12 VBB (power) "Positive power supply voltage. Design the wiring for the simultaneous max. short circuit currents from channel 1 to 2 and also for low thermal resistance", 13 VBB (power) "Positive power supply voltage. Design the wiring for the simultaneous max. short circuit currents from channel 1 to 2 and also for low thermal resistance"

## BTS5242-2L
designator U?
Smart High-Side Power Switch PROFET, 2 Channesl, 6 A Load Current, -40 to 150 degC, PG-DSO-12-9, Reel, Green; Manufacturer: Infineon; PartNumber: BTS5242-2L; Channels: 2; Green: TRUE; Group: Automotive Qualified; Load Current (typ): 6 A; Recommended Operating Voltage Max.: 28 V; Recommended Operating Voltage Min.: 4.5 V; RON @ 25degreesC: 25 mOhm; toff (max): 250 us; DatasheetVersion: Rev. 1.2; PackageVersion: May-07; PackageReference: PG-DSO-12-9; PackageDescription: 12-Pin Plastic (Green) Dual Small Outline Package, 7.5 x 6.4 mm Body, 1 mm Pitch; Supplier 1: Mouser; Supplier Part Number 1: 726-BTS5242-2L; Supplier 2: Newark; Supplier Part Number 2: 58M4076; Supplier 3: Farnell; Supplier Part Number 3: 1440806; Supplier 4: Digi-Key; Supplier Part Number 4: BTS5242-2LINTR-ND; Supplier 5: Digi-Key; Supplier Part Number 5: BTS5242-2LINCT-ND; Supplier 6: Digi-Key; Supplier Part Number 6: BTS5242-2LINDKR-ND; Halogen-free: TRUE; Packing: Reel; ton (max): 250 us; Mounting Technology: Surface Mount; ComponentLink1Description: Manufacturer URL; ComponentLink1URL: http://www.infineon.com/; ComponentLink2Description: Datasheet; ComponentLink2URL: http://www.infineon.com/dgdl/BTS5242-2L.pdf?folderId=db3a30431400ef68011421b54e2e0564&fileId=db3a30431be39b97011c471d70037aa1&location=en.Products.Automotive_ICs.Smart_High-_and_Low-Side_Switches.PROFET__-_Smart_High_Side_Switches.DATASHEET.BTS5242-2L.pdf; ComponentLink3Description: Package Specification; ComponentLink3URL: http://www.infineon.com/dgdl/BTS5210L.pdf?folderId=db3a304314dca389011537739e37155f&fileId=db3a304316f112290116f28c05eb7248&sId=db3a30443d67b5ca013d84e4f39f338f
footprint INF-PG-DSO-12-9_N (SOP, 12-Leads, Body 7.5x6.4mm, Pitch 1mm, Thermal Pad 7.9x4.3mm, IPC Medium Density)
footprint INF-PG-DSO-12-9_L (SOP, 12-Leads, Body 7.5x6.4mm, Pitch 1mm, Thermal Pad 7.9x4.3mm, IPC High Density)
footprint INF-PG-DSO-12-9_M (SOP, 12-Leads, Body 7.5x6.4mm, Pitch 1mm, Thermal Pad 7.9x4.3mm, IPC Low Density)
pins: 1 GND (power) "Ground connection", 2 IN1 (in) "Input signal for channel 1", 3 IS1 (hiz) "Diagnosis output signal channel 1", 4 IS2 (hiz) "Diagnosis output signal channel 2", 5 IN2 (in) "Input signal for channel 2", 6 VBB (power) "Positive power supply for logic supply as well as output power supply", 7 CLA (in) "Current limit adjust input for channel 1&2", 8 OUT2 (power) "Protected high-side power output channel 2", 9 OUT2 (power) "Protected high-side power output channel 2", 10 OUT1 (power) "Protected high-side power output channel 1", 11 OUT1 (power) "Protected high-side power output channel 1", 12 VBB (power) "Positive power supply for logic supply as well as output power supply"

## BTS5246-2L
designator U?
Smart High-Side Power Switch PROFET, 2 Channels, 6 A Load Current, -40 to 150 degC, PG-DSO-12-9, Reel, Green; Manufacturer: Infineon; PartNumber: BTS5246-2L; Channels: 2; Green: TRUE; Group: Automotive Qualified; Load Current (typ): 6 A; Recommended Operating Voltage Max.: 28 V; Recommended Operating Voltage Min.: 4.5 V; RON @ 25degreesC: 19 mOhm; toff (max): 250 us; DatasheetVersion: Rev. 1.4; PackageVersion: May-07; PackageReference: PG-DSO-12-9; PackageDescription: 12-Pin Plastic (Green) Dual Small Outline Package, 7.5 x 6.4 mm Body, 1 mm Pitch; Supplier 1: Mouser; Supplier Part Number 1: 726-BTS5246-2L; Supplier 2: Digi-Key; Supplier Part Number 2: BTS5246-2LINTR-ND; Supplier 3: Digi-Key; Supplier Part Number 3: BTS5246-2LINCT-ND; Supplier 4: Digi-Key; Supplier Part Number 4: BTS5246-2LINDKR-ND; Halogen-free: TRUE; Packing: Reel; ton (max): 250 us; Mounting Technology: Surface Mount; ComponentLink1Description: Manufacturer URL; ComponentLink1URL: http://www.infineon.com/; ComponentLink2Description: Datasheet; ComponentLink2URL: http://www.infineon.com/dgdl/BTS5246-2L.pdf?folderId=db3a30431400ef68011421b54e2e0564&fileId=db3a30431be39b97011c471bee0e7a9e&location=en.Products.Automotive_ICs.Smart_High-_and_Low-Side_Switches.PROFET__-_Smart_High_Side_Switches.DATASHEET.BTS5246-2L.pdf; ComponentLink3Description: Package Specification; ComponentLink3URL: http://www.infineon.com/dgdl/BTS5210L.pdf?folderId=db3a304314dca389011537739e37155f&fileId=db3a304316f112290116f28c05eb7248&sId=db3a30443d67b5ca013d84e4f39f338f
footprint INF-PG-DSO-12-9_N (SOP, 12-Leads, Body 7.5x6.4mm, Pitch 1mm, Thermal Pad 7.9x4.3mm, IPC Medium Density)
footprint INF-PG-DSO-12-9_L (SOP, 12-Leads, Body 7.5x6.4mm, Pitch 1mm, Thermal Pad 7.9x4.3mm, IPC High Density)
footprint INF-PG-DSO-12-9_M (SOP, 12-Leads, Body 7.5x6.4mm, Pitch 1mm, Thermal Pad 7.9x4.3mm, IPC Low Density)
pins: 1 GND (power) "Ground connection", 2 IN1 (in) "Input signal for channel 1", 3 IS1 (hiz) "Diagnosis output signal channel 1", 4 IS2 (hiz) "Diagnosis output signal channel 2", 5 IN2 (in) "Input signal for channel 2", 6 VBB (power) "Positive power supply for logic supply as well as output power supply", 7 CLA (in) "Current limit adjust input for channel 1&2", 8 OUT2 (power) "Protected high-side power output channel 2", 9 OUT2 (power) "Protected high-side power output channel 2", 10 OUT1 (power) "Protected high-side power output channel 1", 11 OUT1 (power) "Protected high-side power output channel 1", 12 VBB (power) "Positive power supply for logic supply as well as output power supply"